# Altium schematic symbol library 178P6764P0001.SchLib: 1 symbol
Pins are listed as number, name and electrical type; pins without a type are passive.

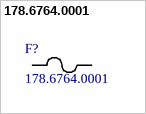
[diagram p0: symbol 178.6764.0001]

## 178.6764.0001
designator F?
Description; Manufacturer_Name: Littelfuse Inc; Copyright: Copyright (C) 2026 Ultra Librarian. All rights reserved.; Manufacturer_Part_Number: 178.6764.0001
footprint FUSE_178.6764.0001_LTF
pins: 1, 2